# Altium footprint library qfn_20_300x300x80.PcbLib: 1 footprints
Each footprint in its own frame and in the unit in brackets; x right, y up, seen from the top. Pads: shape width x height; smd on the part's side, far side on the other; paste and mask are expansions set on the pad; w line width, h text height; cw(c..) or ccw(c..) is an arc to the next point about the centre after c.
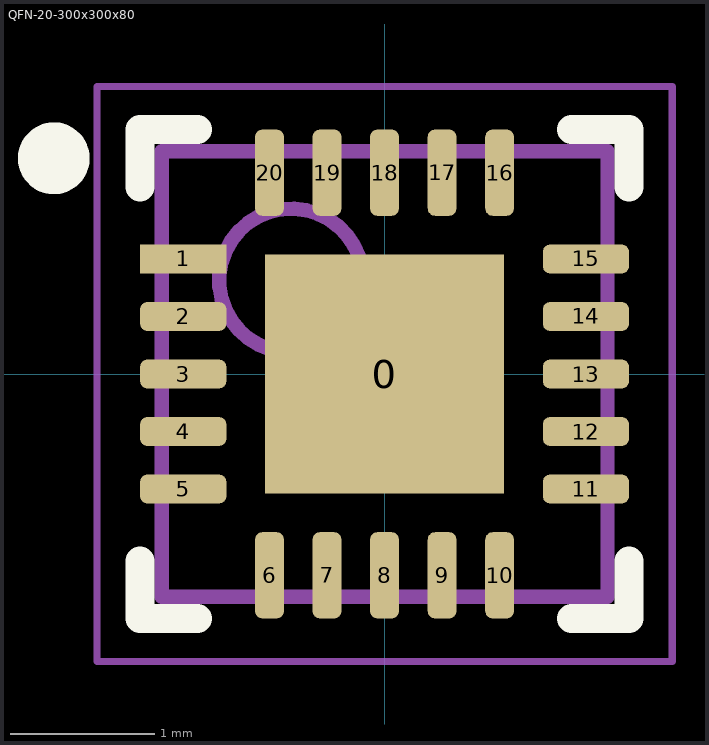
[diagram p0: the footprint, top view; thin cyan lines are the x and y axes]

## QFN-20-300x300x80 [mm] "QFN, 20-Leads, Body 3,00x3,00mm, Pitch 0,40mm, Thermal Pad 1,85x1,85mm, IPC Medium Density"
height 0.8
pads (21):
  rect 1.66x1.66 smd: 0(0,0)
  rect 0.6x0.2 smd: 1(-1.4,0.8)
  rrect50% 0.6x0.2 smd: 2(-1.4,0.4) 3(-1.4,0) 4(-1.4,-0.4) 5(-1.4,-0.8) 11(1.4,-0.8) 12(1.4,-0.4) 13(1.4,0) 14(1.4,0.4) 15(1.4,0.8)
  rrect50% 0.2x0.6 smd: 6(-0.8,-1.4) 7(-0.4,-1.4) 8(0,-1.4) 9(0.4,-1.4) 10(0.8,-1.4) 16(0.8,1.4) 17(0.4,1.4) 18(0,1.4) 19(-0.4,1.4) 20(-0.8,1.4)
Top Overlay:
  circle w0.25: c-2.3,1.5 r0.125
  lines w0.2: -1.7,-1.3 -1.7,-1.7 -1.3,-1.7 ; -1.7,1.3 -1.7,1.7 -1.3,1.7 ; 1.3,-1.7 1.7,-1.7 1.7,-1.3 ; 1.3,1.7 1.7,1.7 1.7,1.3
Top Comment:
  text ".Comment" at 1,2.5 h1.2
Top Designator:
  text ".Designator" at -0.5,2.5 h1.2
Top Component Outline:
  circle w0.1: c-0.65,0.65 r0.5
  lines w0.1: -1.55,-1.55 -1.55,1.55 1.55,1.55 1.55,-1.55 -1.55,-1.55
Top Courtyard (Mech15):
  lines w0.05: -2,-2 -2,2 2,2 2,-2 -2,-2
  lines w0.1: -0.5,0 0.5,0 ; 0,-0.5 0,0.5
3D body "QFN-20-3X3.STEP": height 0.8, standoff 0, extent -1.5,-1.5 1.5,1.5